# Altium schematic symbol library Acoustic.SchLib: 2 symbols
Pins are listed as number, name and electrical type; pins without a type are passive.

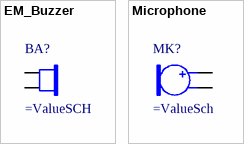
[diagram p0: symbols EM_Buzzer to Microphone]

## EM_Buzzer
designator BA?
pins: M, P

## Microphone
designator MK?
Electret microphone
pins: M+, M-